# Altium footprint library PCB1.PcbLib: 25 footprints (part 1 of 2)
Each footprint in its own frame and in the unit in brackets; x right, y up, seen from the top. Pads: shape width x height; smd on the part's side, far side on the other; paste and mask are expansions set on the pad; w line width, h text height; cw(c..) or ccw(c..) is an arc to the next point about the centre after c.
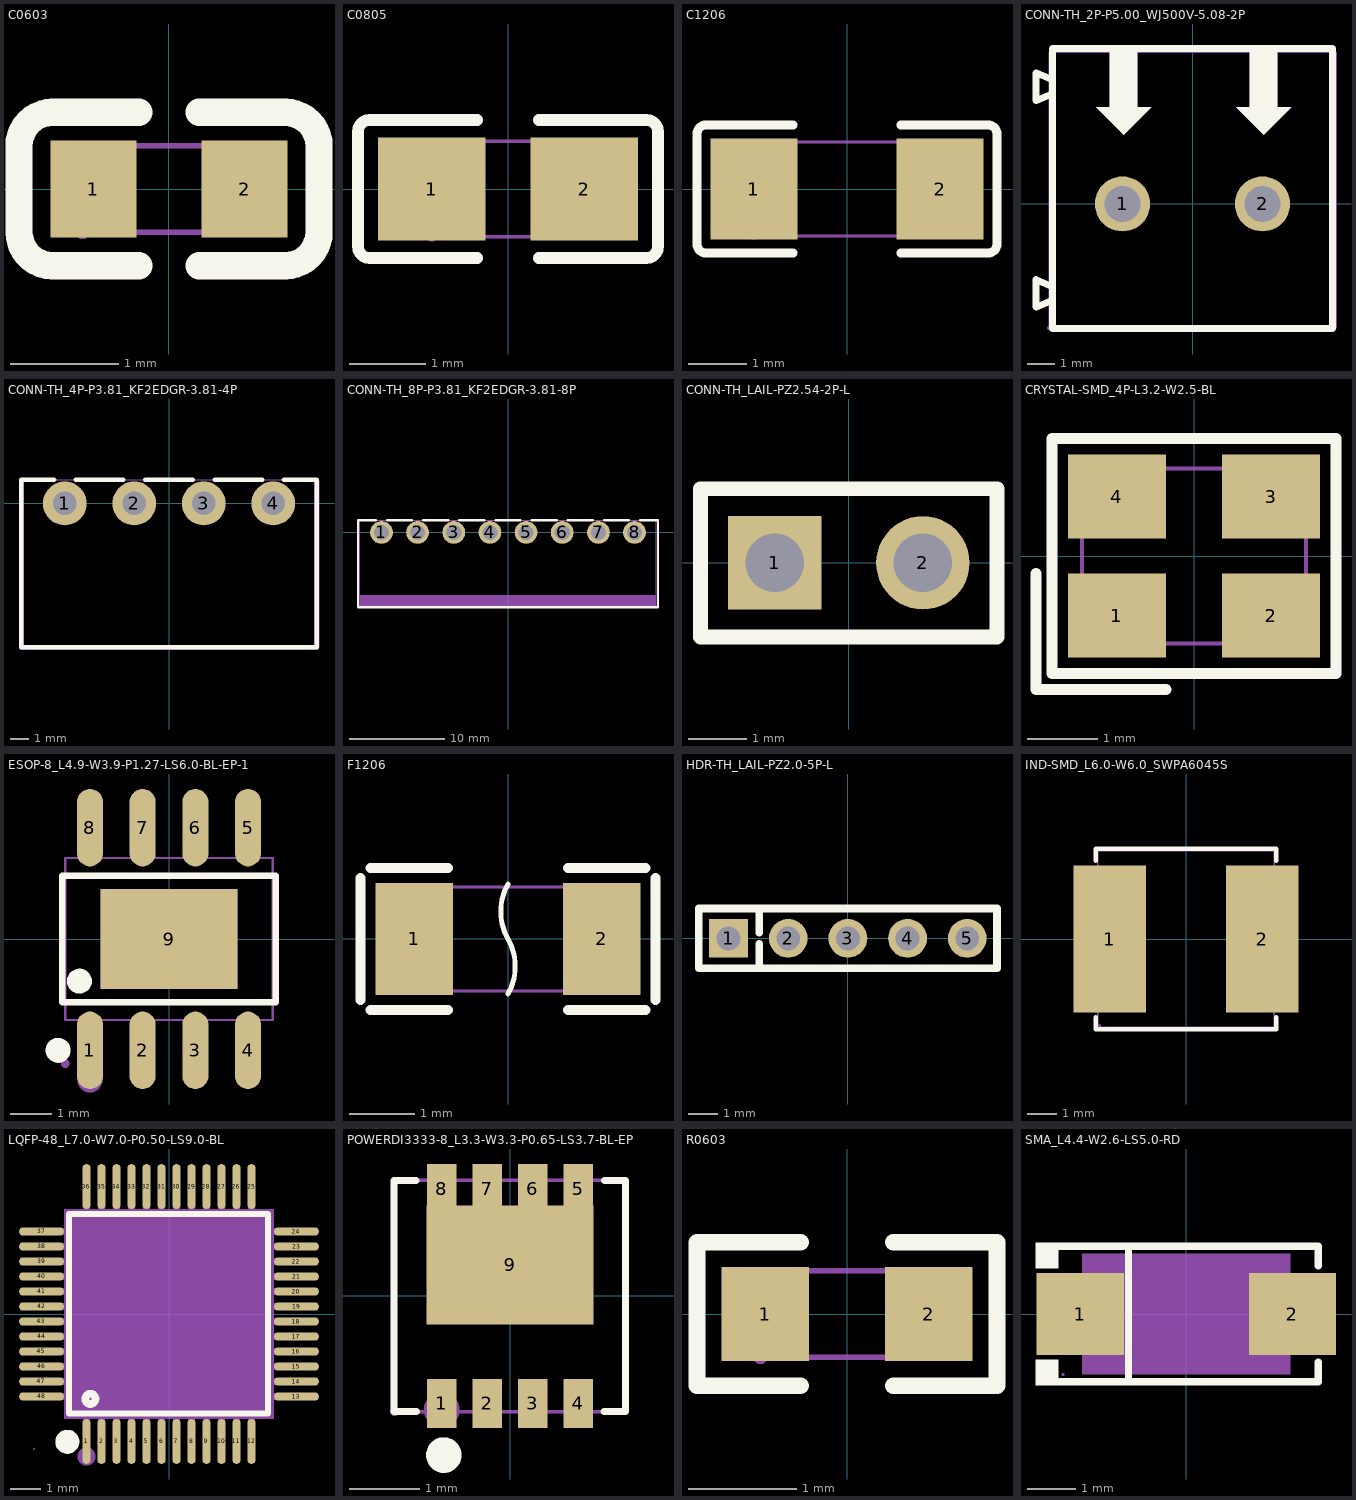
[diagram p0: the footprints below, top view; thin cyan lines are the x and y axes]

## C0603 [mm]
pads (2):
  rect 0.8x0.9 smd: 1(-0.7,0) 2(0.7,0)
Top Overlay:
  lines w0.254: -1.08,-0.71 -0.28,-0.71 ; -1.08,0.71 -0.28,0.71 ; -1.08,-0.71 cw(c-1.08,-0.4) -1.39,-0.4 -1.39,0.4 cw(c-1.08,0.4) -1.08,0.71 ; 0.28,-0.71 1.08,-0.71 ccw(c1.08,-0.4) 1.39,-0.4 1.39,0.4 ccw(c1.08,0.4) 1.08,0.71 0.28,0.71
Mechanical 7:
  lines w0.051: -0.8,-0.4 -0.8,0.4 0.8,0.4 0.8,-0.4 -0.8,-0.4
Mechanical 8:
  region: -0.74,-0.4 -0.74,-0.425 -0.775,-0.46 -0.825,-0.46 -0.86,-0.425 -0.86,-0.4 -0.86,-0.375 -0.825,-0.34 -0.775,-0.34 -0.74,-0.375 -0.74,-0.4
Mechanical 9:
  region: -0.8,-0.4 -0.8,0.4 -0.5,0.4 -0.5,-0.4
  region: 0.8,-0.4 0.8,0.4 0.5,0.4 0.5,-0.4

## C0805 [mm]
pads (2):
  rect 1.41x1.35 smd paste-100 mask+0.051: 1(-1,0) 2(1,0)
Top Overlay:
  lines w0.152: -0.401,-0.904 -1.811,-0.904 cw(c-1.811,-0.751) -1.964,-0.751 -1.964,0.751 cw(c-1.811,0.751) -1.811,0.904 -0.401,0.904 ; 0.401,-0.904 1.811,-0.904 ccw(c1.811,-0.751) 1.964,-0.751 1.964,0.751 ccw(c1.811,0.751) 1.811,0.904 0.401,0.904
Top Paste:
  region: 1.705,0.64 1.705,-0.64 1.655,-0.69 0.505,-0.69 0.455,-0.64 0.45,-0.23 0.9,-0.23 0.9,0.22 0.46,0.22 0.455,0.64 0.505,0.69 1.655,0.69
  region: -1.705,-0.64 -1.705,0.64 -1.655,0.69 -0.505,0.69 -0.455,0.64 -0.45,0.23 -0.9,0.23 -0.9,-0.22 -0.46,-0.22 -0.455,-0.64 -0.505,-0.69 -1.655,-0.69
Mechanical 7:
  lines w0.051: -1,-0.625 1,-0.625 1,0.625 -1,0.625 -1,-0.625
Mechanical 8:
  region: -0.94,-0.625 -0.94,-0.65 -0.975,-0.685 -1.025,-0.685 -1.06,-0.65 -1.06,-0.625 -1.06,-0.6 -1.025,-0.565 -0.975,-0.565 -0.94,-0.6 -0.94,-0.625
Mechanical 9:
  region: 1,0.625 1,-0.625 0.5,-0.625 0.5,0.625
  region: -1,-0.625 -1,0.625 -0.5,0.625 -0.5,-0.625

## C1206 [mm]
pads (2):
  rect 1.485x1.728 smd paste-100 mask+0.051: 1(-1.593,0) 2(1.593,0)
Top Overlay:
  lines w0.152: -0.926,-1.093 -2.411,-1.093 cw(c-2.411,-0.94) -2.564,-0.94 -2.564,0.94 cw(c-2.411,0.94) -2.411,1.093 -0.926,1.093 ; 0.926,-1.093 2.411,-1.093 ccw(c2.411,-0.94) 2.564,-0.94 2.564,0.94 ccw(c2.411,0.94) 2.411,1.093 0.926,1.093
Top Paste:
  region: -0.85,-0.764 -0.85,-0.394 -0.95,-0.294 -1.255,-0.294 -1.355,-0.194 -1.355,0.194 -1.255,0.294 -0.95,0.294 -0.85,0.394 -0.85,0.764 -0.95,0.864 -2.235,0.864 -2.335,0.764 -2.335,-0.764 -2.235,-0.864 -0.95,-0.864
  region: 0.85,-0.764 0.85,-0.394 0.95,-0.294 1.255,-0.294 1.355,-0.194 1.355,0.194 1.255,0.294 0.95,0.294 0.85,0.394 0.85,0.764 0.95,0.864 2.235,0.864 2.335,0.764 2.335,-0.764 2.235,-0.864 0.95,-0.864
Mechanical 7:
  lines w0.051: -1.6,-0.8 1.6,-0.8 1.6,0.8 -1.6,0.8 -1.6,-0.8
Mechanical 8:
  region: -1.54,-0.8 -1.54,-0.825 -1.575,-0.86 -1.625,-0.86 -1.66,-0.825 -1.66,-0.8 -1.66,-0.775 -1.625,-0.74 -1.575,-0.74 -1.54,-0.775 -1.54,-0.8
Mechanical 9:
  region: 1.6,-0.8 1.6,0.8 1.1,0.8 1.1,-0.8
  region: -1.6,-0.8 -1.6,0.8 -1.1,0.8 -1.1,-0.8

## CONN-TH_2P-P5.00_WJ500V-5.08-2P [mm]
pads (2):
  round 2 hole 1.3: 1(-2.54,0) 2(2.54,0)
Top Overlay:
  region: 2.08,5.5 3.08,5.5 3.08,3.5 3.58,3.5 2.58,2.5 1.58,3.5 2.08,3.5
  region: -3,5.5 -2,5.5 -2,3.5 -1.5,3.5 -2.5,2.5 -3.5,3.5 -3,3.5
  lines w0.254: -5.08,-4.52 -5.08,5.64 ; -5.08,-3.5 -5.68,-3.75 -5.68,-2.75 -5.08,-3 ; -5.08,4 -5.68,3.75 -5.68,4.75 -5.08,4.5 ; -5.054,-4.522 5.08,-4.522 5.08,5.638 -5.054,5.638
Mechanical 6:
  region: -3,5.5 -2,5.5 -2,3.5 -1.5,3.5 -2.5,2.5 -3.5,3.5 -3,3.5
  region: 2.08,5.5 3.08,5.5 3.08,3.5 3.58,3.5 2.58,2.5 1.58,3.5 2.08,3.5
Mechanical 7:
  lines w0.051: -5.207,-4.5 -5.207,5.5 5.207,5.5 5.207,-4.5 -5.207,-4.5
Mechanical 8:
  region: -5.147,-4.5 -5.147,-4.525 -5.182,-4.56 -5.232,-4.56 -5.267,-4.525 -5.267,-4.5 -5.267,-4.475 -5.232,-4.44 -5.182,-4.44 -5.147,-4.475 -5.147,-4.5
Mechanical 9:
  region: -1.99,0 -1.99,-0.109 -2.074,-0.312 -2.228,-0.466 -2.431,-0.55 -2.649,-0.55 -2.852,-0.466 -3.006,-0.312 -3.09,-0.109 -3.09,0 -3.09,0.109 -3.006,0.312 -2.852,0.466 -2.649,0.55 -2.431,0.55 -2.228,0.466 -2.074,0.312 -1.99,0.109 -1.99,0
  region: 3.09,0 3.09,-0.109 3.006,-0.312 2.852,-0.466 2.649,-0.55 2.431,-0.55 2.228,-0.466 2.074,-0.312 1.99,-0.109 1.99,0 1.99,0.109 2.074,0.312 2.228,0.466 2.431,0.55 2.649,0.55 2.852,0.466 3.006,0.312 3.09,0.109 3.09,0

## CONN-TH_4P-P3.81_KF2EDGR-3.81-4P [mm]
pads (4):
  round 2.4 hole 1.3: 1(-5.715,0) 2(-1.905,0) 3(1.905,0) 4(5.715,0)
Top Overlay:
  lines w0.254: -6.31,1.3 -8.1,1.3 -8.1,-7.9 8.1,-7.9 8.1,1.3 6.31,1.3 ; -5.12,1.3 -2.5,1.3 ; -1.31,1.3 1.31,1.3 ; 2.5,1.3 5.12,1.3
Mechanical 6:
  region: -7.973,1.2 -7.973,-7.773 7.973,-7.773 7.973,1.25 7.983,1.299 8.01,1.34 8.051,1.367 8.1,1.377 8.149,1.367 8.19,1.34 8.217,1.299 8.227,1.25 8.227,-7.9 8.217,-7.949 8.19,-7.99 8.149,-8.017 8.1,-8.027 -8.1,-8.027 -8.149,-8.017 -8.19,-7.99 -8.217,-7.949 -8.227,-7.9 -8.227,1.2 -8.217,1.249 -8.19,1.29 -8.149,1.317 -8.1,1.327 -8.051,1.317 -8.01,1.29 -7.983,1.249
Mechanical 7:
  lines w0.051: -8.02,-7.9 8.02,-7.9 8.02,1.3 -8.02,1.3 -8.02,-7.9
Mechanical 8:
  region: -7.96,-7.9 -7.96,-7.925 -7.995,-7.96 -8.045,-7.96 -8.08,-7.925 -8.08,-7.9 -8.08,-7.875 -8.045,-7.84 -7.995,-7.84 -7.96,-7.875 -7.96,-7.9
Mechanical 9:
  region: -6.115,0.4 -5.315,0.4 -5.315,-0.4 -6.115,-0.4
  region: -2.305,0.4 -1.505,0.4 -1.505,-0.4 -2.305,-0.4
  region: 1.505,0.4 2.305,0.4 2.305,-0.4 1.505,-0.4
  region: 5.315,0.4 6.115,0.4 6.115,-0.4 5.315,-0.4

## CONN-TH_8P-P3.81_KF2EDGR-3.81-8P [mm]
pads (8):
  round 2.4 hole 1.6: 1(-13.335,0) 2(-9.525,0) 3(-5.715,0) 4(-1.905,0) 5(1.905,0) 6(5.715,0) 7(9.525,0) 8(13.335,0)
Top Overlay:
  lines w0.254: -13.93,1.3 -15.81,1.3 -15.81,-7.9 15.81,-7.9 15.81,1.3 13.93,1.3 ; -12.74,1.3 -10.12,1.3 ; -8.93,1.3 -6.31,1.3 ; -5.12,1.3 -2.5,1.3 ; -1.31,1.3 1.31,1.3 ; 2.5,1.3 5.12,1.3 ; 6.31,1.3 8.19,1.3 ; 8.066,1.3 8.93,1.3 ; 10.12,1.3 12.74,1.3
Mechanical 6:
  region: -15.6,-6.6 15.6,-6.6 15.6,-7.9 -15.6,-7.9 -15.6,-7.3
Mechanical 7:
  lines w0.051: -15.64,-7.9 15.64,-7.9 15.64,1.3 -15.64,1.3 -15.64,-7.9
Mechanical 8:
  region: -15.58,-7.9 -15.58,-7.925 -15.615,-7.96 -15.665,-7.96 -15.7,-7.925 -15.7,-7.9 -15.7,-7.875 -15.665,-7.84 -15.615,-7.84 -15.58,-7.875 -15.58,-7.9
Mechanical 9:
  region: -13.735,0.4 -12.935,0.4 -12.935,-0.4 -13.735,-0.4
  region: -9.925,0.4 -9.125,0.4 -9.125,-0.4 -9.925,-0.4
  region: -6.115,0.4 -5.315,0.4 -5.315,-0.4 -6.115,-0.4
  region: -2.305,0.4 -1.505,0.4 -1.505,-0.4 -2.305,-0.4
  region: 1.505,0.4 2.305,0.4 2.305,-0.4 1.505,-0.4
  region: 5.315,0.4 6.115,0.4 6.115,-0.4 5.315,-0.4
  region: 9.125,0.4 9.925,0.4 9.925,-0.4 9.125,-0.4
  region: 12.935,0.4 13.735,0.4 13.735,-0.4 12.935,-0.4

## CONN-TH_LAIL-PZ2.54-2P-L [mm]
pads (2):
  rect 1.6x1.6 hole 1 paste+0 mask+0.05: 1(-1.27,0)
  round 1.6 hole 1 paste+0 mask+0.05: 2(1.27,0)
Top Overlay:
  lines w0.254: -2.54,-1.27 2.54,-1.27 2.54,1.27 -2.54,1.27 -2.54,-1.27
Mechanical 7:
  lines w0.051: -2.54,-1.25 2.54,-1.25 2.54,1.25 -2.54,1.25 -2.54,-1.25
Mechanical 8:
  region: -2.48,-1.25 -2.48,-1.275 -2.515,-1.31 -2.565,-1.31 -2.6,-1.275 -2.6,-1.25 -2.6,-1.225 -2.565,-1.19 -2.515,-1.19 -2.48,-1.225 -2.48,-1.25
Mechanical 9:
  region: 0.95,0.32 1.59,0.32 1.59,-0.32 0.95,-0.32
  region: -1.59,0.32 -0.95,0.32 -0.95,-0.32 -1.59,-0.32

## CRYSTAL-SMD_4P-L3.2-W2.5-BL [mm]
pads (4):
  rect 1.4x1.2 smd: 1(-1.1,-0.85) 2(1.1,-0.85) 3(1.1,0.85) 4(-1.1,0.85)
Top Overlay:
  lines w0.152: -2.257,-0.25 -2.257,-1.907 -0.4,-1.907 ; -2.029,-1.678 2.029,-1.678 2.029,1.679 -2.029,1.679 -2.029,-1.678
Mechanical 6:
  circle w0.254: c-1.27,-0.889 r0.127
Mechanical 7:
  lines w0.051: -1.6,-1.25 1.6,-1.25 1.6,1.25 -1.6,1.25 -1.6,-1.25
Mechanical 8:
  region: -1.54,-1.25 -1.54,-1.275 -1.575,-1.31 -1.625,-1.31 -1.66,-1.275 -1.66,-1.25 -1.66,-1.225 -1.625,-1.19 -1.575,-1.19 -1.54,-1.225 -1.54,-1.25
Mechanical 9:
  region: -1.5,-0.35 -0.6,-0.35 -0.6,-1.15 -1.5,-1.15
  region: 0.6,-0.35 1.5,-0.35 1.5,-1.15 0.6,-1.15
  region: 0.6,1.15 1.5,1.15 1.5,0.35 0.6,0.35
  region: -1.5,1.15 -0.6,1.15 -0.6,0.35 -1.5,0.35

## ESOP-8_L4.9-W3.9-P1.27-LS6.0-BL-EP-1 [mm]
pads (9):
  oval 0.63x1.865 smd: 1(-1.905,-2.682) 2(-0.635,-2.682) 3(0.635,-2.682) 4(1.905,-2.682) 5(1.905,2.682) 6(0.635,2.682) 7(-0.635,2.682) 8(-1.905,2.682)
  rect 3.3x2.4 smd paste+0 mask+0.05: 9(0,0)
Top Overlay:
  circle w0.3: c-2.159,-1.016 r0.15
  circle w0.3: c-2.672,-2.682 r0.15
  lines w0.152: -2.576,-1.521 2.576,-1.521 2.576,1.521 -2.576,1.521 -2.576,-1.521
Mechanical 6:
  circle w0.3: c-1.905,-3.4 r0.15
Mechanical 7:
  lines w0.051: -2.5,-1.95 2.5,-1.95 2.5,1.95 -2.5,1.95 -2.5,-1.95
Mechanical 8:
  region: -2.4,-3 -2.4,-3.041 -2.458,-3.1 -2.541,-3.1 -2.6,-3.041 -2.6,-3 -2.6,-2.959 -2.541,-2.9 -2.458,-2.9 -2.4,-2.959 -2.4,-3
Mechanical 9:
  region: -1.65,1.2 1.65,1.2 1.65,-1.2 -1.65,-1.2
  region: 1.695,2.165 1.695,3 2.115,3 2.115,2.165
  region: 0.425,2.165 0.425,3 0.845,3 0.845,2.165
  region: -0.845,2.165 -0.845,3 -0.425,3 -0.425,2.165
  region: -2.115,2.165 -2.115,3 -1.695,3 -1.695,2.165
  region: 1.695,-3 1.695,-2.165 2.115,-2.165 2.115,-3
  region: 0.425,-3 0.425,-2.165 0.845,-2.165 0.845,-3
  region: -0.845,-3 -0.845,-2.165 -0.425,-2.165 -0.425,-3
  region: -2.115,-3 -2.115,-2.165 -1.695,-2.165 -1.695,-3
Mechanical 10:
  region: 1.695,1.94 1.695,2.175 2.115,2.175 2.115,1.94
  region: 0.425,1.94 0.425,2.175 0.845,2.175 0.845,1.94
  region: -0.845,1.94 -0.845,2.175 -0.425,2.175 -0.425,1.94
  region: -2.115,1.94 -2.115,2.175 -1.695,2.175 -1.695,1.94
  region: 1.695,-2.175 1.695,-1.94 2.115,-1.94 2.115,-2.175
  region: 0.425,-2.175 0.425,-1.94 0.845,-1.94 0.845,-2.175
  region: -0.845,-2.175 -0.845,-1.94 -0.425,-1.94 -0.425,-2.175
  region: -2.115,-2.175 -2.115,-1.94 -1.695,-1.94 -1.695,-2.175

## F1206 [mm]
pads (2):
  rect 1.19x1.728 smd: 1(-1.445,0) 2(1.445,0)
Top Overlay:
  lines w0.076: 0,-0.845 ccw(c-0.732,-0.422) 0,0 cw(c0.732,0.422) 0,0.845
  lines w0.152: -2.269,-0.94 -2.269,0.94 ; -2.116,-1.093 -0.926,-1.093 ; -2.116,1.093 -0.926,1.093 ; 0.926,-1.093 2.116,-1.093 ; 0.926,1.093 2.116,1.093 ; 2.269,-0.94 2.269,0.94
Mechanical 7:
  lines w0.051: -1.6,-0.8 -1.6,0.8 1.6,0.8 1.6,-0.8 -1.6,-0.8
Mechanical 8:
  region: -1.54,-0.8 -1.54,-0.825 -1.575,-0.86 -1.625,-0.86 -1.66,-0.825 -1.66,-0.8 -1.66,-0.775 -1.625,-0.74 -1.575,-0.74 -1.54,-0.775 -1.54,-0.8
Mechanical 9:
  region: 1.1,-0.8 1.6,-0.8 1.6,0.8 1.1,0.8
  region: -1.6,-0.8 -1.1,-0.8 -1.1,0.8 -1.6,0.8

## HDR-TH_LAIL-PZ2.0-5P-L [mm]
pads (5):
  rect 1.3x1.3 hole 0.8 paste+0 mask+0.05: 1(-4,0)
  round 1.3 hole 0.8 paste+0 mask+0.05: 2(-2,0) 3(0,0) 4(2,0) 5(4,0)
Top Overlay:
  lines w0.254: -2.973,-0.889 -2.973,-0.188 ; -2.973,0.188 -2.973,1.016 ; 3,-1 2.978,-1 ; 2.978,-1 -5,-1 -5,1 -4.978,1 3,1 5,1 5,-1 2.978,-1
Mechanical 7:
  lines w0.051: -5,-1 5,-1 5,1 -5,1 -5,-1
Mechanical 8:
  region: -4.94,-1 -4.94,-1.025 -4.975,-1.06 -5.025,-1.06 -5.06,-1.025 -5.06,-1 -5.06,-0.975 -5.025,-0.94 -4.975,-0.94 -4.94,-0.975 -4.94,-1
Mechanical 9:
  region: 1.8,0.2 2.2,0.2 2.2,-0.2 1.8,-0.2
  region: -4.2,0.2 -3.8,0.2 -3.8,-0.2 -4.2,-0.2
  region: -2.2,0.2 -1.8,0.2 -1.8,-0.2 -2.2,-0.2
  region: -0.2,0.2 0.2,0.2 0.2,-0.2 -0.2,-0.2
  region: 3.8,0.2 4.2,0.2 4.2,-0.2 3.8,-0.2

## IND-SMD_L6.0-W6.0_SWPA6045S [mm]
pads (2):
  rect 2.474x5.02 smd: 1(-2.603,0) 2(2.603,0)
Top Overlay:
  lines w0.152: -3.076,-2.662 -3.076,-3.076 3.076,-3.076 3.076,-2.662 ; -3.076,2.662 -3.076,3.076 3.076,3.076 3.076,2.662
Mechanical 7:
  lines w0.051: -3,-3 3,-3 3,3 -3,3 -3,-3
Mechanical 8:
  region: -2.91,-2.97 -2.91,-2.995 -2.945,-3.03 -2.995,-3.03 -3.03,-2.995 -3.03,-2.97 -3.03,-2.945 -2.995,-2.91 -2.945,-2.91 -2.91,-2.945 -2.91,-2.97
Mechanical 9:
  region: -3,2.45 -1.45,2.45 -1.45,-2.45 -3,-2.45
  region: 1.45,2.45 3,2.45 3,-2.45 1.45,-2.45

## LQFP-48_L7.0-W7.0-P0.50-LS9.0-BL [mm]
pads (48):
  oval 0.27x1.5 smd paste+0 mask+0.05: 1(-2.75,-4.25) 2(-2.25,-4.25) 3(-1.75,-4.25) 4(-1.25,-4.25) 5(-0.75,-4.25) 6(-0.25,-4.25) 7(0.25,-4.25) 8(0.75,-4.25) 9(1.25,-4.25) 10(1.75,-4.25) 11(2.25,-4.25) 12(2.75,-4.25) 25(2.75,4.25) 26(2.25,4.25) 27(1.75,4.25) 28(1.25,4.25) 29(0.75,4.25) 30(0.25,4.25) 31(-0.25,4.25) 32(-0.75,4.25) 33(-1.25,4.25) 34(-1.75,4.25) 35(-2.25,4.25) 36(-2.75,4.25)
  oval 1.5x0.27 smd paste+0 mask+0.05: 13(4.25,-2.75) 14(4.25,-2.25) 15(4.25,-1.75) 16(4.25,-1.25) 17(4.25,-0.75) 18(4.25,-0.25) 19(4.25,0.25) 20(4.25,0.75) 21(4.25,1.25) 22(4.25,1.75) 23(4.25,2.25) 24(4.25,2.75) 37(-4.25,2.75) 38(-4.25,2.25) 39(-4.25,1.75) 40(-4.25,1.25) 41(-4.25,0.75) 42(-4.25,0.25) 43(-4.25,-0.25) 44(-4.25,-0.75) 45(-4.25,-1.25) 46(-4.25,-1.75) 47(-4.25,-2.25) 48(-4.25,-2.75)
Top Overlay:
  circle w0.254: c-2.62,-2.83 r0.17
  lines w0.2: -2.896,3.34 3.302,3.34 3.302,-3.315 -3.327,-3.315 -3.327,3.34 -2.565,3.34
  lines w0.4: -3.39,-4.06 ccw(c-3.389,-4.26) -3.387,-4.06
Mechanical 6:
  circle w0.3: c-2.75,-4.75 r0.15
Mechanical 7:
  region: -3.5,3.5 3.5,3.5 3.5,-3.5 -3.5,-3.5
Mechanical 8:
  region: -4.47,-4.5 -4.47,-4.512 -4.488,-4.53 -4.512,-4.53 -4.53,-4.512 -4.53,-4.5 -4.53,-4.488 -4.512,-4.47 -4.488,-4.47 -4.47,-4.488 -4.47,-4.5
Mechanical 9:
  drawing of 48 lines, arcs and shapes, not listed
Mechanical 10:
  drawing of 48 lines, arcs and shapes, not listed

## POWERDI3333-8_L3.3-W3.3-P0.65-LS3.7-BL-EP [mm]
pads (9):
  rect 0.42x0.7 smd paste-100 mask+0.05: 1(-0.975,-1.532) 2(-0.325,-1.533) 3(0.325,-1.533) 4(0.975,-1.533) 5(0.975,1.533) 6(0.325,1.533) 7(-0.325,1.533) 8(-0.975,1.533)
  rect 2.38x1.7 smd paste-100 mask+0.05: 9(0,0.443)
Top Overlay:
  circle w0.254: c-0.946,-2.27 r0.127
  lines w0.102: -1.345,1.65 -1.656,1.65 -1.656,-1.65 -1.337,-1.65 ; 1.344,-1.65 1.644,-1.65 1.644,1.65 1.345,1.65
Top Paste:
  region: -1.185,-1.182 -1.185,-1.882 -0.765,-1.882 -0.765,-1.182
  region: 0.764,-1.182 0.764,-1.883 1.186,-1.883 1.186,-1.182
  region: -0.536,-1.182 -0.536,-1.883 -0.114,-1.883 -0.114,-1.182
  region: 0.114,-1.182 0.114,-1.883 0.536,-1.883 0.536,-1.182
  region: -0.535,1.883 -0.535,1.294 -0.765,1.294 -0.765,1.883 -1.185,1.883 -1.185,1.294 -1.19,1.294 -1.19,-0.408 1.19,-0.408 1.19,1.294 1.185,1.294 1.185,1.883 0.765,1.883 0.765,1.294 0.535,1.294 0.535,1.883 0.115,1.883 0.115,1.294 -0.115,1.294 -0.115,1.883
Mechanical 6:
  circle w0.254: c-0.975,-1.625 r0.127
Mechanical 7:
  lines w0.051: -1.65,-1.65 1.65,-1.65 1.65,1.65 -1.65,1.65 -1.65,-1.65
Mechanical 8:
  region: -1.59,-1.65 -1.59,-1.675 -1.625,-1.71 -1.675,-1.71 -1.71,-1.675 -1.71,-1.65 -1.71,-1.625 -1.675,-1.59 -1.625,-1.59 -1.59,-1.625 -1.59,-1.65
Mechanical 9:
  region: -0.815,-1.649 -1.135,-1.649 -1.135,-1.259 -0.815,-1.259
  region: -0.165,-1.649 -0.485,-1.649 -0.485,-1.259 -0.165,-1.259
  region: 0.485,-1.649 0.165,-1.649 0.165,-1.259 0.485,-1.259
  region: 1.135,-1.649 0.815,-1.649 0.815,-1.259 1.135,-1.259
  region: -1.135,1.65 -0.815,1.65 -0.815,1.26 -1.135,1.26
  region: -0.485,1.65 -0.165,1.65 -0.165,1.26 -0.485,1.26
  region: 0.165,1.65 0.485,1.65 0.485,1.26 0.165,1.26
  region: 0.815,1.65 1.135,1.65 1.135,1.26 0.815,1.26
  region: -1.135,1.26 1.135,1.26 1.135,-0.35 -1.135,-0.35

## R0603 [mm]
pads (2):
  rect 0.806x0.864 smd paste-100 mask+0.051: 1(-0.753,0) 2(0.753,0)
Top Overlay:
  lines w0.152: -0.426,-0.661 -1.385,-0.661 -1.385,0.661 -0.426,0.661 ; 0.426,-0.661 1.385,-0.661 1.385,0.661 0.426,0.661
Top Paste:
  region: -1.195,-0.45 -0.395,-0.45 -0.345,-0.4 -0.345,-0.172 -0.715,-0.172 -0.715,0.158 -0.345,0.158 -0.345,0.4 -0.395,0.45 -1.195,0.45 -1.245,0.4 -1.245,-0.4
  region: 1.195,0.45 0.395,0.45 0.345,0.4 0.345,0.172 0.715,0.172 0.715,-0.158 0.345,-0.158 0.345,-0.4 0.395,-0.45 1.195,-0.45 1.245,-0.4 1.245,0.4
Mechanical 7:
  lines w0.051: -0.8,-0.4 0.8,-0.4 0.8,0.4 -0.8,0.4 -0.8,-0.4
Mechanical 8:
  region: -0.74,-0.4 -0.74,-0.425 -0.775,-0.46 -0.825,-0.46 -0.86,-0.425 -0.86,-0.4 -0.86,-0.375 -0.825,-0.34 -0.775,-0.34 -0.74,-0.375 -0.74,-0.4
Mechanical 9:
  region: 0.8,-0.4 0.8,0.4 0.5,0.4 0.5,-0.4
  region: -0.8,-0.4 -0.8,0.4 -0.5,0.4 -0.5,-0.4

## SMA_L4.4-W2.6-LS5.0-RD [mm]
pads (2):
  rect 1.8x1.7 smd paste+0 mask+0.051: 1(-2.192,0) 2(2.192,0)
Top Overlay:
  region: -2.65,-1.477 -2.65,-0.949 -3.107,-0.949 -3.107,-1.477
  region: -2.65,1.477 -2.65,0.949 -3.107,0.949 -3.107,1.477
  lines w0.152: -2.726,-1.401 2.726,-1.401 2.726,-1 ; -2.726,1.401 2.726,1.401 2.726,1 ; -1.197,-1.401 -1.197,1.401
Mechanical 6:
  region: 2.153,-0.663 2.153,0.663 1.954,0.663 1.954,-0.663
  region: 2.451,-0.099 2.451,0.099 1.656,0.099 1.656,-0.099
  region: -2.451,-0.099 -2.451,0.099 -1.656,0.099 -1.656,-0.099
Mechanical 7:
  region: -2.15,-1.25 -2.15,1.25 2.15,1.25 2.15,-1.25
Mechanical 8:
  region: -2.52,-1.25 -2.52,-1.262 -2.537,-1.28 -2.562,-1.28 -2.58,-1.262 -2.58,-1.25 -2.58,-1.238 -2.562,-1.22 -2.537,-1.22 -2.52,-1.238 -2.52,-1.25
Mechanical 9:
  region: 1.35,-0.725 1.35,0.725 2.55,0.725 2.55,-0.725
  region: -1.35,0.725 -1.35,-0.725 -2.55,-0.725 -2.55,0.725